# EAGLE library part 1X7-JTAG (library JLB6_Connec)
Sonde JTAG avec RTCK
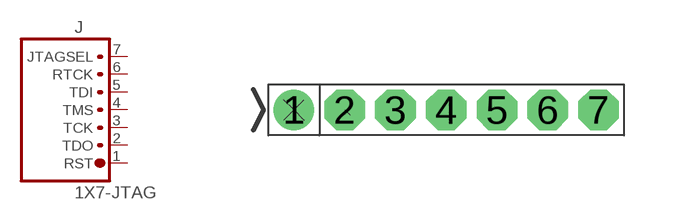
[diagram p44: symbol with the pads of 1X7-127OCT; footprint 1X7-127OCT]

Designator prefix J

## 1X7-JTAG  [1X7-127OCT]
1  RST  pas
2  TDO  pas
3  TCK  pas
4  TMS  pas
5  TDI  pas
6  RTCK  pas
7  JTAGSEL  pas

## Footprint 1X7-127OCT (pad centres in mm)
drill 0.5 pad 1.016: 1 -3.81,0
drill 0.5 pad 1.016 octagon: 2 -2.54,0; 3 -1.27,0; 4 0,0; 5 1.27,0; 6 2.54,0; 7 3.81,0